# Altium schematic symbol library Connectors.SchLib: 21 symbols
Pins are listed as number, name and electrical type; pins without a type are passive.

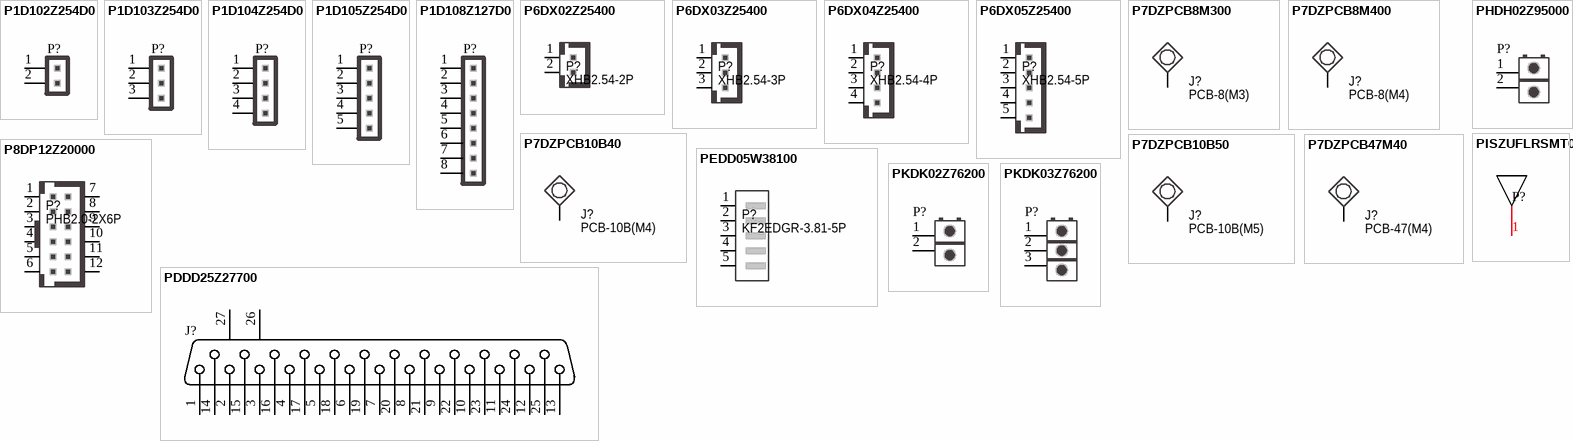
[diagram p0: symbols P1D102Z254D0 to PKDK03Z76200]

## P1D102Z254D0
designator P?, comment Header 2  (value not drawn)
Header 2-Pin Pitch 2.54mm Height 11mm; VenderID: 单排针2.54mm针长11mm; Publisher: GreenBox; Published: 1-Jun-2017; MountType: DIP; PackageReference: HDR2X1; TemperatureRange: *; Manufacturer: *
signal-integrity model Connector
footprint HDR-1X2 (Header 2, Pitch 2.54mm)
pins: 1, 2

## P1D103Z254D0
designator P?, comment Header 3  (value not drawn)
Header 3-Pin Pitch 2.54mm Height 11mm; VenderID: 单排针2.54mm针长11mm; Publisher: GreenBox; Published: 1-Jun-2017; MountType: DIP; PackageReference: HDR3X1; TemperatureRange: *; Manufacturer: *
signal-integrity model Connector
footprint HDR-1X3 (Header 3, Pitch 2.54mm)
pins: 1, 2, 3

## P1D104Z254D0
designator P?, comment Header 4  (value not drawn)
Header 4-Pin Pitch 2.54mm Height 11mm; VenderID: 单排针2.54mm针长11mm; Publisher: GreenBox; Published: 1-Jun-2017; MountType: DIP; PackageReference: HDR4X1; TemperatureRange: *; Manufacturer: *
signal-integrity model Connector
footprint HDR-1X4 (Footprint not found)
pins: 1, 2, 3, 4

## P1D105Z254D0
designator P?, comment Header 5  (value not drawn)
Header 5-Pin Pitch 2.54mm Height 11mm; VenderID: 单排针2.54mm针长11mm; Publisher: GreenBox; Published: 1-Jun-2017; MountType: DIP; PackageReference: HDR5X1; TemperatureRange: *; Manufacturer: *
signal-integrity model Connector
footprint HDR-1X5 (Header 5, Pitch 2.54mm)
pins: 1, 2, 3, 4, 5

## P1D108Z127D0
designator P?, comment Header 8  (value not drawn)
Header 8-Pin Pitch 1.27mm Height 11mm; VenderID: 单排针1.27mm针长11mm; Publisher: GreenBox; Published: 1-Jun-2017; MountType: DIP; PackageReference: HDR8X1; TemperatureRange: *; Manufacturer: *
signal-integrity model Connector
footprint HDR-1X8-1.27 (Header 7, Pitch 2.54mm)
pins: 1, 2, 3, 4, 5, 6, 7, 8

## P6DX02Z25400
designator P?, comment XHB2.54-2P
Header XHB2.54-2P 2.54mm; TemperatureRange: -25 to 85°C; Manufacturer: *; MountType: DIP; PackageReference: XH2.54-2P; Published: 1-Jun-2017; Publisher: GreenBox; VenderID: XHB2.54-2P
footprint XH-2 (XH(B)2.54-2P, Pitch 2.54mm)
signal-integrity model Connector
pins: 1, 2

## P6DX03Z25400
designator P?, comment XHB2.54-3P
Header XHB2.54-3P 2.54mm; TemperatureRange: -25 to 85°C; Manufacturer: *; MountType: DIP; PackageReference: XH2.54-3P; Published: 1-Jun-2017; Publisher: GreenBox; VenderID: XHB2.54-3P
footprint XH-3 (XH(B)2.54-3P, Pitch 2.54mm)
signal-integrity model Connector
pins: 1, 2, 3

## P6DX04Z25400
designator P?, comment XHB2.54-4P
Header XHB2.54-4P 2.54mm; TemperatureRange: -25 to 85°C; Manufacturer: *; MountType: DIP; PackageReference: XH2.54-4P; Published: 1-Jun-2017; Publisher: GreenBox; VenderID: XHB2.54-4P
footprint XH-4 (XH(B)2.54-4P, Pitch 2.54mm)
signal-integrity model Connector
pins: 1, 2, 3, 4

## P6DX05Z25400
designator P?, comment XHB2.54-5P
Header XHB2.54-5P 2.54mm; TemperatureRange: -25 to 85°C; Manufacturer: *; MountType: DIP; PackageReference: XH2.54-5P; Published: 1-Jun-2017; Publisher: GreenBox; VenderID: XHB2.54-5P
footprint XH-5 (XH(B)2.54-5P, Pitch 2.54mm)
signal-integrity model Connector
pins: 1, 2, 3, 4, 5

## P7DZPCB8M300
designator J?, comment PCB-8(M3)
Terminal Body PCB-8-M3; Manufacturer: *; MountType: DIP; PackageReference: PCB-8; Published: 1-Jun-2017; Publisher: GreenBox; TemperatureRange: *; VenderID: PCB-8(M3)
footprint PCB-8 (Only used in lighting protection module)
signal-integrity model Connector
pins: 1 AC

## P7DZPCB8M400
designator J?, comment PCB-8(M4)
Terminal Body PCB-8-M4; Manufacturer: *; MountType: DIP; PackageReference: PCB-8; Published: 1-Jun-2017; Publisher: GreenBox; TemperatureRange: *; VenderID: PCB-8(M4)
footprint PCB-8 (Only used in lighting protection module)
signal-integrity model Connector
pins: 1 AC

## P7DZPCB10B40
designator J?, comment PCB-10B(M4)
Terminal Body PCB-10B-M4; Manufacturer: *; MountType: DIP; PackageReference: PCB-10B(M4); Published: 1-Jun-2017; Publisher: GreenBox; TemperatureRange: *; VenderID: PCB-10B(M4)
footprint PCB-10B(M4) (Only used in lighting protection module)
signal-integrity model Connector
pins: 1 AC

## P7DZPCB10B50
designator J?, comment PCB-10B(M5)
Terminal Body PCB-10B-M5; Manufacturer: *; MountType: DIP; PackageReference: PCB-10B(M4); Published: 1-Jun-2017; Publisher: GreenBox; TemperatureRange: *; VenderID: PCB-10B(M5)
footprint PCB-10B(M5) (Only used in lighting protection module)
signal-integrity model Connector
pins: 1 AC

## P7DZPCB47M40
designator J?, comment PCB-47(M4)
Terminal Body PCB-47(M4); Manufacturer: *; MountType: DIP; PackageReference: PCB-47(M4); Published: 1-Jun-2017; Publisher: GreenBox; TemperatureRange: *; VenderID: PCB-47(M4)
footprint PCB-47 (Only used in lighting protection module)
signal-integrity model Connector
pins: 1 AC

## P8DP12Z20000
designator P?, comment PHB2.0-2X6P
Header PHB2.0-2X6P 2.0mm; TemperatureRange: -25 to 85°C; Manufacturer: *; MountType: DIP; PackageReference: PHB2.0-2X6P; Published: 1-Jun-2017; Publisher: GreenBox; VenderID: PHB2.0-2X6P
footprint PHB-2X6 (Connector; Header; 6x2 Position)
signal-integrity model Connector
pins: 1, 2, 3, 4, 5, 6, 7, 8, 9, 10, 11, 12

## PDDD25Z27700
designator J?, comment DB25  (value not drawn)
Receptacle Assembly DB25 Vertical; Publisher: GreenBox; Published: 1-Jan-2017; MountType: DIP; PackageReference: DB25F; VenderID: DB25 Vertical; TemperatureRange: *
signal-integrity model Connector
footprint DB25F (Connector; D Subminiature; 25 Position; Right Angle; Pitch 1.385 mm)
pins: 1, 2, 3, 4, 5, 6, 7, 8, 9, 10, 11, 12, 13, 14, 15, 16, 17, 18, 19, 20, 21, 22, 23, 24, 25, 26 MH1, 27 MH2

## PEDD05W38100
designator P?, comment KF2EDGR-3.81-5P
Header KF2EDGR-3.81-5P 3.81mm; TemperatureRange: -25 to 85°C; Manufacturer: *; MountType: DIP; PackageReference: KF2EDGR-5P; Published: 1-Jun-2017; Publisher: GreenBox; VenderID: KF2EDGR-3.81-5P
footprint KF2EDGR-5P
signal-integrity model Connector
pins: 1, 2, 3, 4, 5

## PHDH02Z95000
designator P?, comment HB9500-2P  (value not drawn)
Header HB9500-2P 9.5mm; Publisher: GreenBox; Published: 1-Jan-2017; MountType: DIP; PackageReference: HB9500-2P; VenderID: HB9500-2P; TemperatureRange: *
signal-integrity model Connector
footprint HB9500-2 (KF7.62-2P, Pitch 7.62mm)
pins: 1, 2

## PISZUFLRSMT0
designator P?, comment U.FL-R-SMT  (value not drawn)
IPX U.FL-R-SMT; TemperatureRange: -40 to 85°C; Publisher: GreenBox; Published: 1-Jul-2018; MountType: SMT; PackageReference: IPX; VenderID: U.FL-R-SMT
signal-integrity model Connector
footprint IPX-A
pins: 1 RF, 2 GND, 3 GND

## PKDK02Z76200
designator P?, comment KF7.62-2P  (value not drawn)
Header KF7.62-2P 7.62mm; Publisher: GreenBox; Published: 1-Jan-2017; MountType: DIP; PackageReference: KF7.62-2P; VenderID: KF7.62-2P; TemperatureRange: *
signal-integrity model Connector
footprint KF762-2 (KF7.62-2P, Pitch 7.62mm)
pins: 1, 2

## PKDK03Z76200
designator P?, comment KF7.62-3P  (value not drawn)
Header KF7.62-3P 7.62mm; Publisher: GreenBox; Published: 1-Jan-2017; MountType: DIP; PackageReference: KF7.62-3P; VenderID: KF7.62-3P; TemperatureRange: *
signal-integrity model Connector
footprint KF762-3 (KF7.62-2P, Pitch 7.62mm)
pins: 1, 2, 3